# EAGLE library part TP4065 (library TP4056)
1A Standalone Linear Li-lon Battery Charger with Thermal regulation in SOP 8.
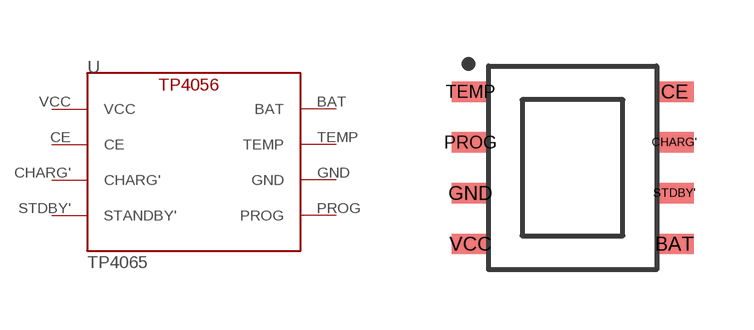
[diagram p0: symbol with the pads of TP4056; footprint TP4056]

Designator prefix -

## TP4065  [TP4056]
BAT  BAT  out
CE  CE
CHARG'  CHARG'
GND  GND  pwr
PROG  PROG
STDBY'  STANDBY'
TEMP  TEMP
VCC  VCC  in

## Footprint TP4056 (pad centres in mm)
smd 0.95 x 0.51: BAT 2.55,-1.905; CE 2.55,1.905; CHARG' 2.55,0.635; GND -2.55,-0.635; PROG -2.55,0.635; STDBY' 2.55,-0.635; TEMP -2.55,1.905; VCC -2.55,-1.905